# Altium footprint library PCB - IR RECEIVER - VISHAY TSOP36X-TR.PCBLIB: 1 footprints
Each footprint in its own frame and in the unit in brackets; x right, y up, seen from the top. Pads: shape width x height; smd on the part's side, far side on the other; paste and mask are expansions set on the pad; w line width, h text height; cw(c..) or ccw(c..) is an arc to the next point about the centre after c.
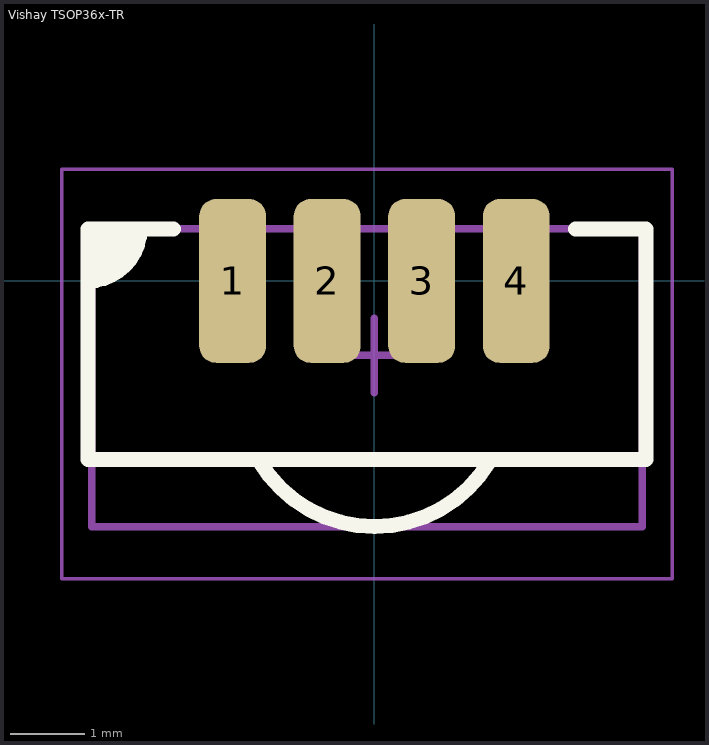
[diagram p0: the footprint, top view; thin cyan lines are the x and y axes]

## Vishay TSOP36x-TR [mm]
height 5.3
pads (4):
  rrect50% 0.9x2.2 smd: 1(-1.905,0) 2(-0.635,0) 3(0.635,0) 4(1.905,0)
Top Overlay:
  region: -3.85,0.7 -3.85,-0.1 -3.65,0.1 -3.5,0.1 -3.15,0.45 -3.15,0.7
  lines w0.2: -3.85,0 ccw(c-3.85,0.7) -3.15,0.7 ; -2.7,0.7 -3.85,0.7 -3.85,-2.4 3.65,-2.4 3.65,0.7 2.7,0.7 ; -1.543,-2.426 ccw(c0,-1.5) 1.543,-2.426
Mechanical 13:
  lines w0.1: -3.8,-3.3 -3.8,0.7 3.6,0.7 3.6,-3.3 -3.8,-3.3
Mechanical 15:
  lines w0.05: -4.2,-4 -4.2,1.5 4,1.5 4,-4 -4.2,-4
  lines w0.1: -0.5,-1 0.5,-1 ; 0,-1.5 0,-0.5
3D body "Vishay TSOP36x.STEP": height 5.3, standoff -0.04, extent -3.85,-3.3 3.65,0.703